# Altium footprint library CN_MiniFit_Jr_4P.PcbLib: 1 footprints
Each footprint in its own frame and in the unit in brackets; x right, y up, seen from the top. Pads: shape width x height; smd on the part's side, far side on the other; paste and mask are expansions set on the pad; w line width, h text height; cw(c..) or ccw(c..) is an arc to the next point about the centre after c.
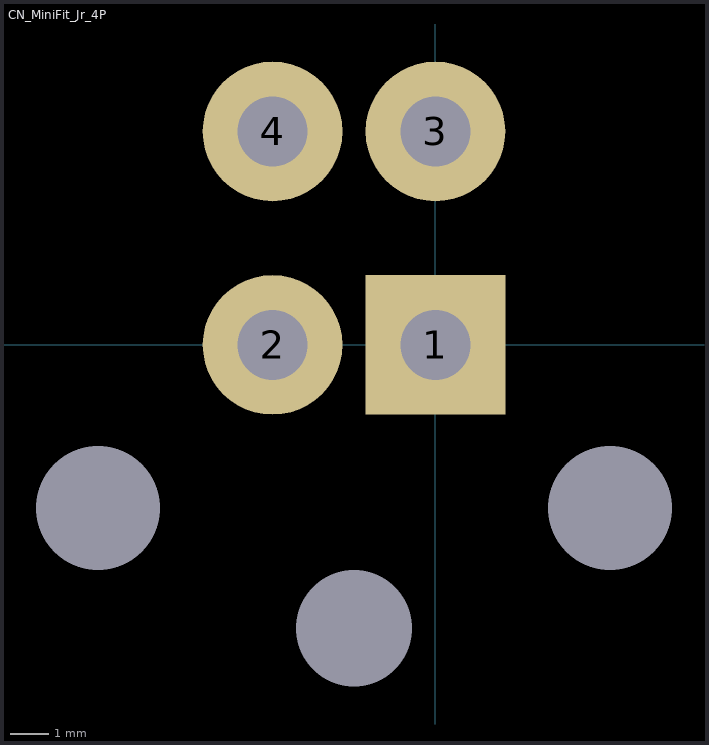
[diagram p0: the footprint, top view; thin cyan lines are the x and y axes]

## CN_MiniFit_Jr_4P [mm] "MOLEX: 39-29-1048 / Tyco:1586043-4"
pads (7):
  round 0 hole 3.2 unplated mask+1.6: 0(-8.7,-4.2) 0(4.5,-4.2)
  round 0 hole 3 unplated mask+1.5: 0(-2.1,-7.3)
  rect 3.6x3.6 hole 1.8: 1(0,0)
  round 3.6 hole 1.8: 2(-4.2,0) 3(0,5.5) 4(-4.2,5.5)
3D body: height 11.4, standoff -3.5, extent -11.9,-13.9 7.7,6